# Altium integrated library MP2307DN-LF-Z.IntLib: 1 symbol
Pins are listed as number, name and electrical type; pins without a type are passive.

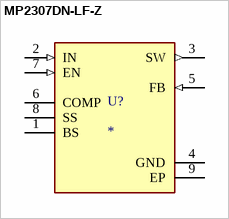
[diagram p0: symbol MP2307DN-LF-Z]

## MP2307DN-LF-Z
designator U?
Buck Switching Regulator IC Positive Adjustable 0.925V 1 Output 3A 8-SOIC (0.154, 3.90mm Width) Exposed Pad; MF: Monolithic Power; MP: MP2307DN-LF-Z; Check_prices: https://www.snapeda.com/parts/MP2307DN-LF-Z/Monolithic+Power+Systems+Inc./view-part/?ref=eda; SnapEDA_Link: https://www.snapeda.com/parts/MP2307DN-LF-Z/Monolithic+Power+Systems+Inc./view-part/?ref=snap; Availability: In Stock; Value: *; Price: None; Package: SOIC-8 Monolithic Power; Purchase-URL: https://pricing.snapeda.com/search/part/MP2307DN-LF-Z/?ref=eda
footprint SOIC127P600X170-9N
pins: 1 BS, 2 IN (in), 3 SW (out), 4 GND (power), 5 FB (in), 6 COMP, 7 EN (in), 8 SS, 9 EP (power)